# Altium footprint library Support ESP32-CAM.PcbLib: 4 footprints
Each footprint in its own frame and in the unit in brackets; x right, y up, seen from the top. Pads: shape width x height; smd on the part's side, far side on the other; paste and mask are expansions set on the pad; w line width, h text height; cw(c..) or ccw(c..) is an arc to the next point about the centre after c.
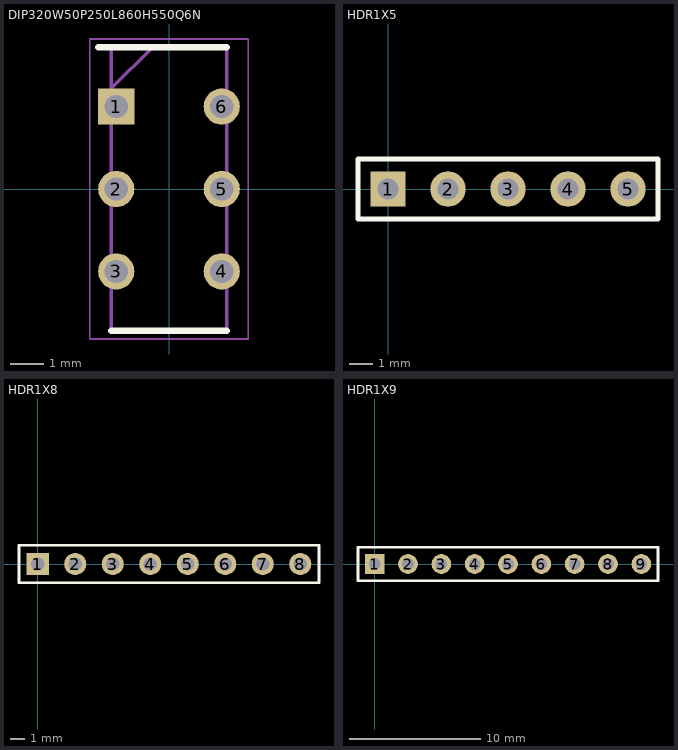
[diagram p0: the footprints below, top view; thin cyan lines are the x and y axes]

## DIP320W50P250L860H550Q6N [mm]
pads (6):
  rect 1.1x1.1 hole 0.7: 1(-1.6,2.5)
  round 1.1 hole 0.7: 2(-1.6,0) 3(-1.6,-2.5) 4(1.6,-2.5) 5(1.6,0) 6(1.6,2.5)
Top Overlay:
  lines w0.2: -2.15,4.3 1.75,4.3 ; -1.75,-4.3 1.75,-4.3
Mechanical 13:
  lines w0.1: -1.75,3.05 -0.5,4.3 ; -1.75,-4.3 -1.75,4.3 1.75,4.3 1.75,-4.3 -1.75,-4.3
Mechanical 15:
  lines w0.05: -2.4,-4.55 -2.4,4.55 2.4,4.55 2.4,-4.55 -2.4,-4.55
3D body "MHS221.stp": height 5.5, standoff -3.85, extent -1.848,-4.3 1.85,4.3

## HDR1X5 [mm] "Connector; Header; 5 Position"
pads (5):
  rect 1.5x1.5 hole 0.9: 1(0,0)
  round 1.5 hole 0.9: 2(2.54,0) 3(5.08,0) 4(7.62,0) 5(10.16,0)
Top Overlay:
  lines w0.2: -1.27,-1.27 -1.27,1.27 11.43,1.27 11.43,-1.27 -1.27,-1.27

## HDR1X8 [mm] "Connector; Header; 8 Position"
pads (8):
  rect 1.5x1.5 hole 0.9: 1(0,0)
  round 1.5 hole 0.9: 2(2.54,0) 3(5.08,0) 4(7.62,0) 5(10.16,0) 6(12.7,0) 7(15.24,0) 8(17.78,0)
Top Overlay:
  lines w0.2: -1.27,-1.27 19.05,-1.27 19.05,1.27 -1.27,1.27 -1.27,-1.27

## HDR1X9 [mm] "Connector; Header; 9 Position"
pads (9):
  rect 1.5x1.5 hole 0.9: 1(0,0)
  round 1.5 hole 0.9: 2(2.54,0) 3(5.08,0) 4(7.62,0) 5(10.16,0) 6(12.7,0) 7(15.24,0) 8(17.78,0) 9(20.32,0)
Top Overlay:
  lines w0.2: -1.27,-1.27 21.59,-1.27 21.59,1.27 -1.27,1.27 -1.27,-1.27